# Altium schematic symbol library Ic7824.SchLib: 1 symbol
Pins are listed as number, name and electrical type; pins without a type are passive.

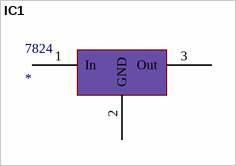
[diagram p0: symbol IC1]

## IC1
designator 7824
pins: 1 In, 2 GND, 3 Out